# Altium schematic symbol library Fingers_2X18.SchLib: 1 symbol
Pins are listed as number, name and electrical type; pins without a type are passive.

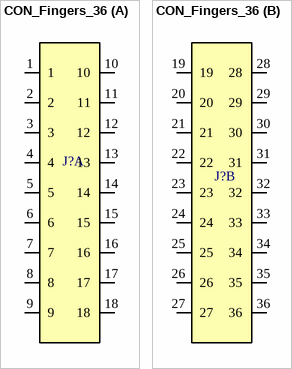
[diagram p0: symbol CON_Fingers_36]

## CON_Fingers_36
designator J?  (value not drawn)
Contact fingers 36 contacts 0.5 mm pitch dual rows
part A pins: 1, 2, 3, 4, 5, 6, 7, 8, 9, 10, 11, 12, 13, 14, 15, 16, 17, 18
part B pins: 19, 20, 21, 22, 23, 24, 25, 26, 27, 28, 29, 30, 31, 32, 33, 34, 35, 36